# EAGLE library part ATMEGA*-ARDUINO-TQFP (library atmel (2))
8bit Microcontroller Source: http://www.atmel.com/images/Atmel-8271-8-bit-AVR-Microcontroller-ATmega48A-48PA-88A-88PA-168A-168PA-328-328P_datasheet_Complete.pdf 8/16/32K Bytes Flash 512/512/1K Bytes EEPROM 1K/1K/2K Byte Internal SRAM
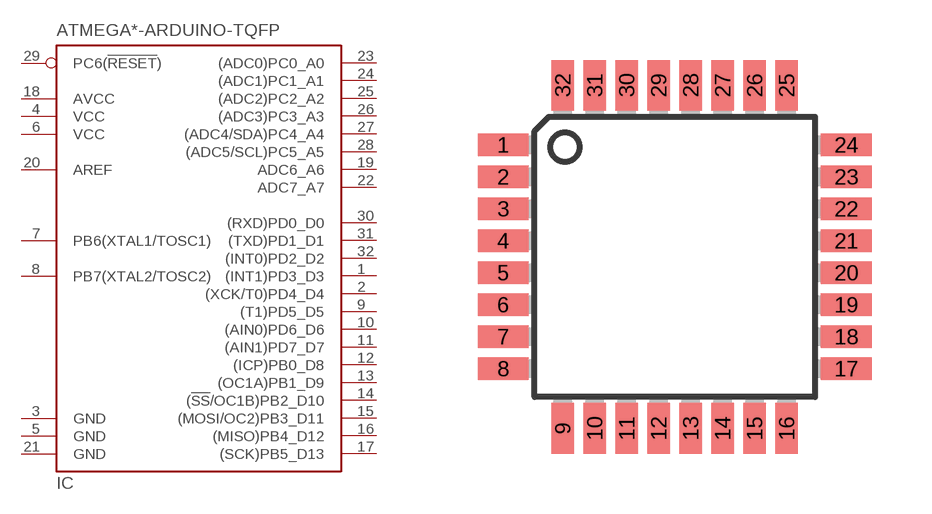
[diagram p6: symbol with the pads of TQFP32-08; footprint TQFP32-08]

Designator prefix IC

## ATMEGA168A-ARDUINO-TQFP, ATMEGA168PA-ARDUINO-TQFP, ATMEGA328-ARDUINO-TQFP, ATMEGA328P-ARDUINO-TQFP, ATMEGA48A-ARDUINO-TQFP, ATMEGA88A-ARDUINO-TQFP, ATMEGA88PA-ARDUINO-TQFP  [TQFP32-08]
1  (INT1)PD3_D3
2  (XCK/T0)PD4_D4
3  GND  pwr
4  VCC  pwr
5  GND  pwr
6  VCC  pwr
7  PB6(XTAL1/TOSC1)
8  PB7(XTAL2/TOSC2)
9  (T1)PD5_D5
10  (AIN0)PD6_D6
11  (AIN1)PD7_D7
12  (ICP)PB0_D8
13  (OC1A)PB1_D9
14  (!SS!/OC1B)PB2_D10
15  (MOSI/OC2)PB3_D11
16  (MISO)PB4_D12
17  (SCK)PB5_D13
18  AVCC  pwr
19  ADC6_A6
20  AREF  pas
21  GND  pwr
22  ADC7_A7
23  (ADC0)PC0_A0
24  (ADC1)PC1_A1
25  (ADC2)PC2_A2
26  (ADC3)PC3_A3
27  (ADC4/SDA)PC4_A4
28  (ADC5/SCL)PC5_A5
29  PC6(!RESET!)
30  (RXD)PD0_D0
31  (TXD)PD1_D1
32  (INT0)PD2_D2

## Footprint TQFP32-08 (pad centres in mm)
Thin Plasic Quad Flat Package Grid 0.8 mm
smd 1.27 x 0.559: 1 -4.293,2.8; 2 -4.293,2; 3 -4.293,1.2; 4 -4.293,0.4; 5 -4.293,-0.4; 6 -4.293,-1.2; 7 -4.293,-2; 8 -4.293,-2.8; 17 4.293,-2.8; 18 4.293,-2; 19 4.293,-1.2; 20 4.293,-0.4; 21 4.293,0.4; 22 4.293,1.2; 23 4.293,2; 24 4.293,2.8
smd 0.559 x 1.27: 9 -2.8,-4.293; 10 -2,-4.293; 11 -1.2,-4.293; 12 -0.4,-4.293; 13 0.4,-4.293; 14 1.2,-4.293; 15 2,-4.293; 16 2.8,-4.293; 25 2.8,4.293; 26 2,4.293; 27 1.2,4.293; 28 0.4,4.293; 29 -0.4,4.293; 30 -1.2,4.293; 31 -2,4.293; 32 -2.8,4.293